# EAGLE library part ULTRAVOLT_DAUGHTERBOARD_HV_DC_BOARD_SOCKET (library Batboard rev 2.2)
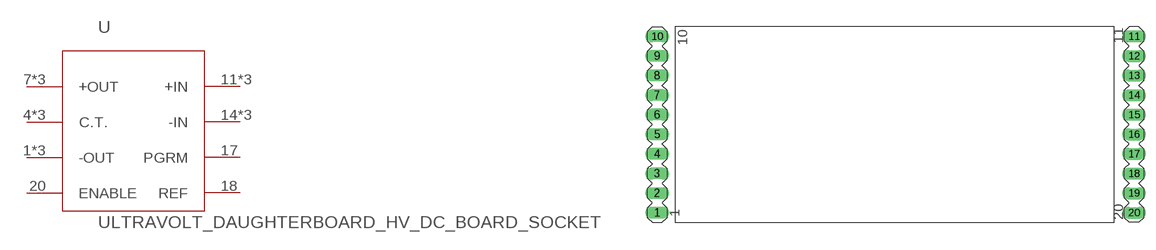
[diagram p9: symbol with the pads of ULTRAVOLT_DAUGHTERBOARD_HV-DC_BOARD_SOCKET; footprint ULTRAVOLT_DAUGHTERBOARD_HV-DC_BOARD_SOCKET]

Designator prefix -

## ULTRAVOLT_DAUGHTERBOARD_HV_DC_BOARD_SOCKET  [ULTRAVOLT_DAUGHTERBOARD_HV-DC_BOARD_SOCKET]
1  -OUT
2  -OUT
3  -OUT
4  C.T.
5  C.T.
6  C.T.
7  +OUT
8  +OUT
9  +OUT
11  +IN
12  +IN
13  +IN
14  -IN
15  -IN
16  -IN
17  PGRM
18  REF
20  ENABLE

## Footprint ULTRAVOLT_DAUGHTERBOARD_HV-DC_BOARD_SOCKET (pad centres in mm)
drill 1.016 long: 1 -11.43,-13.97; 2 -11.43,-11.43; 3 -11.43,-8.89; 4 -11.43,-6.35; 5 -11.43,-3.81; 6 -11.43,-1.27; 7 -11.43,1.27; 8 -11.43,3.81; 9 -11.43,6.35; 10 -11.43,8.89; 11 50.292,8.89; 12 50.292,6.35; 13 50.292,3.81; 14 50.292,1.27; 15 50.292,-1.27; 16 50.292,-3.81; 17 50.292,-6.35; 18 50.292,-8.89; 19 50.292,-11.43; 20 50.292,-13.97